# EAGLE library part ACPL-247 (library ds_ic_peripherals)
DC Input, Multi-Channel Half-Pitch Phototransistor Optocoupler
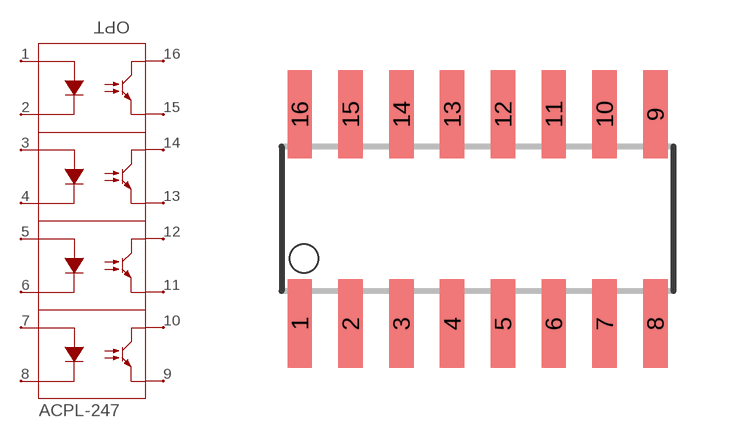
[diagram p43: symbol with the pads of SO16; footprint SO16]

Designator prefix OPT

## ACPL-2471 (DATASHEET: https://docs.broadcom.com/doc/AV02-0752EN; DESCRIPTION: 80V 50mA 400mV@2.4mA,8mA 4 6V 1.2V DC SOP-16-4.4mm Transistor, Photovoltaic Output Optoisolators ROHS; HQ_PART: IS0001505; LCSC_PART: C188681; MANUFACTURER: Broadcom; MPN: ACPL-247-500E; ROHS: YES; VALUE: ACPL-247-500E)  [SO16]
1  1  pas
2  2  pas
3  3  pas
4  4  pas
5  5  pas
6  6  pas
7  7  pas
8  8  pas
9  9  pas
10  10  pas
11  11  pas
12  12  pas
13  13  pas
14  14  pas
15  15  pas
16  16  pas

## Footprint SO16 (pad centres in mm)
smd 0.61 x 2.21: 1 -4.445,-2.616; 2 -3.175,-2.616; 3 -1.905,-2.616; 4 -0.635,-2.616; 5 0.635,-2.616; 6 1.905,-2.616; 7 3.175,-2.616; 8 4.445,-2.616; 9 4.445,2.616; 10 3.175,2.616; 11 1.905,2.616; 12 0.635,2.616; 13 -0.635,2.616; 14 -1.905,2.616; 15 -3.175,2.616; 16 -4.445,2.616